# EAGLE library part NCP45521IMNTWG-H (library edrtech_lib)
ON Semiconductor NCP45521IMNTWG-H, 1 Power Switch IC, High Side 8-Pin, DFN Source: Datasheet <http://www.onsemi.com/pub/Collateral/NCP45520-D.PDF>
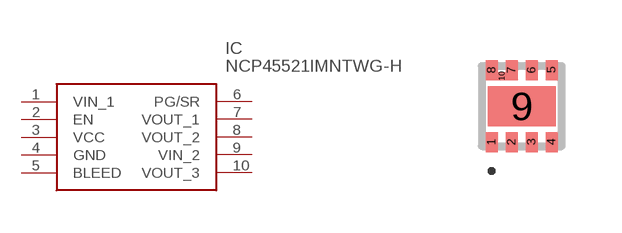
[diagram p48: symbol with the pads of NCP45521; footprint NCP45521]

Designator prefix IC

## NCP45521IMNTWG-H (ARROW_PART_NUMBER: NCP45521IMNTWG-H; ARROW_PRICE-STOCK: https://www.arrow.com/en/products/ncp45521imntwg-h/on-semiconductor?region=nac; DESCRIPTION: ON Semiconductor NCP45521IMNTWG-H, 1 Power Switch IC, High Side 8-Pin, DFN; HEIGHT: 1mm; MANUFACTURER_NAME: onsemi; MANUFACTURER_PART_NUMBER: NCP45521IMNTWG-H; MOUSER_PART_NUMBER: 863-NCP45521IMNTWG-H; MOUSER_PRICE-STOCK: https://www.mouser.co.uk/ProductDetail/onsemi/NCP45521IMNTWG-H?qs=72ObqG5T4UZ6w73ghQANGg%3D%3D)  [NCP45521]
1  VIN_1
2  EN
3  VCC
4  GND
5  BLEED
6  PG/SR
7  VOUT_1
8  VOUT_2
9  VIN_2
10  VOUT_3

## Footprint NCP45521 (pad centres in mm)
DFN8 2x2, 0.5P CASE 506CC ISSUE A_1
smd 0.3 x 0.5: 1 -0.75,-0.9; 2 -0.25,-0.9; 3 0.25,-0.9; 4 0.75,-0.9; 5 0.75,0.9; 6 0.25,0.9; 7 -0.25,0.9; 8 -0.75,0.9
smd 1.7 x 1: 9 0,0
smd 0.195 x 0.2: 10 -0.5,0.75